# Altium footprint library Footprints.PcbLib: 29 footprints (part 1 of 2)
Each footprint in its own frame and in the unit in brackets; x right, y up, seen from the top. Pads: shape width x height; smd on the part's side, far side on the other; paste and mask are expansions set on the pad; w line width, h text height; cw(c..) or ccw(c..) is an arc to the next point about the centre after c.
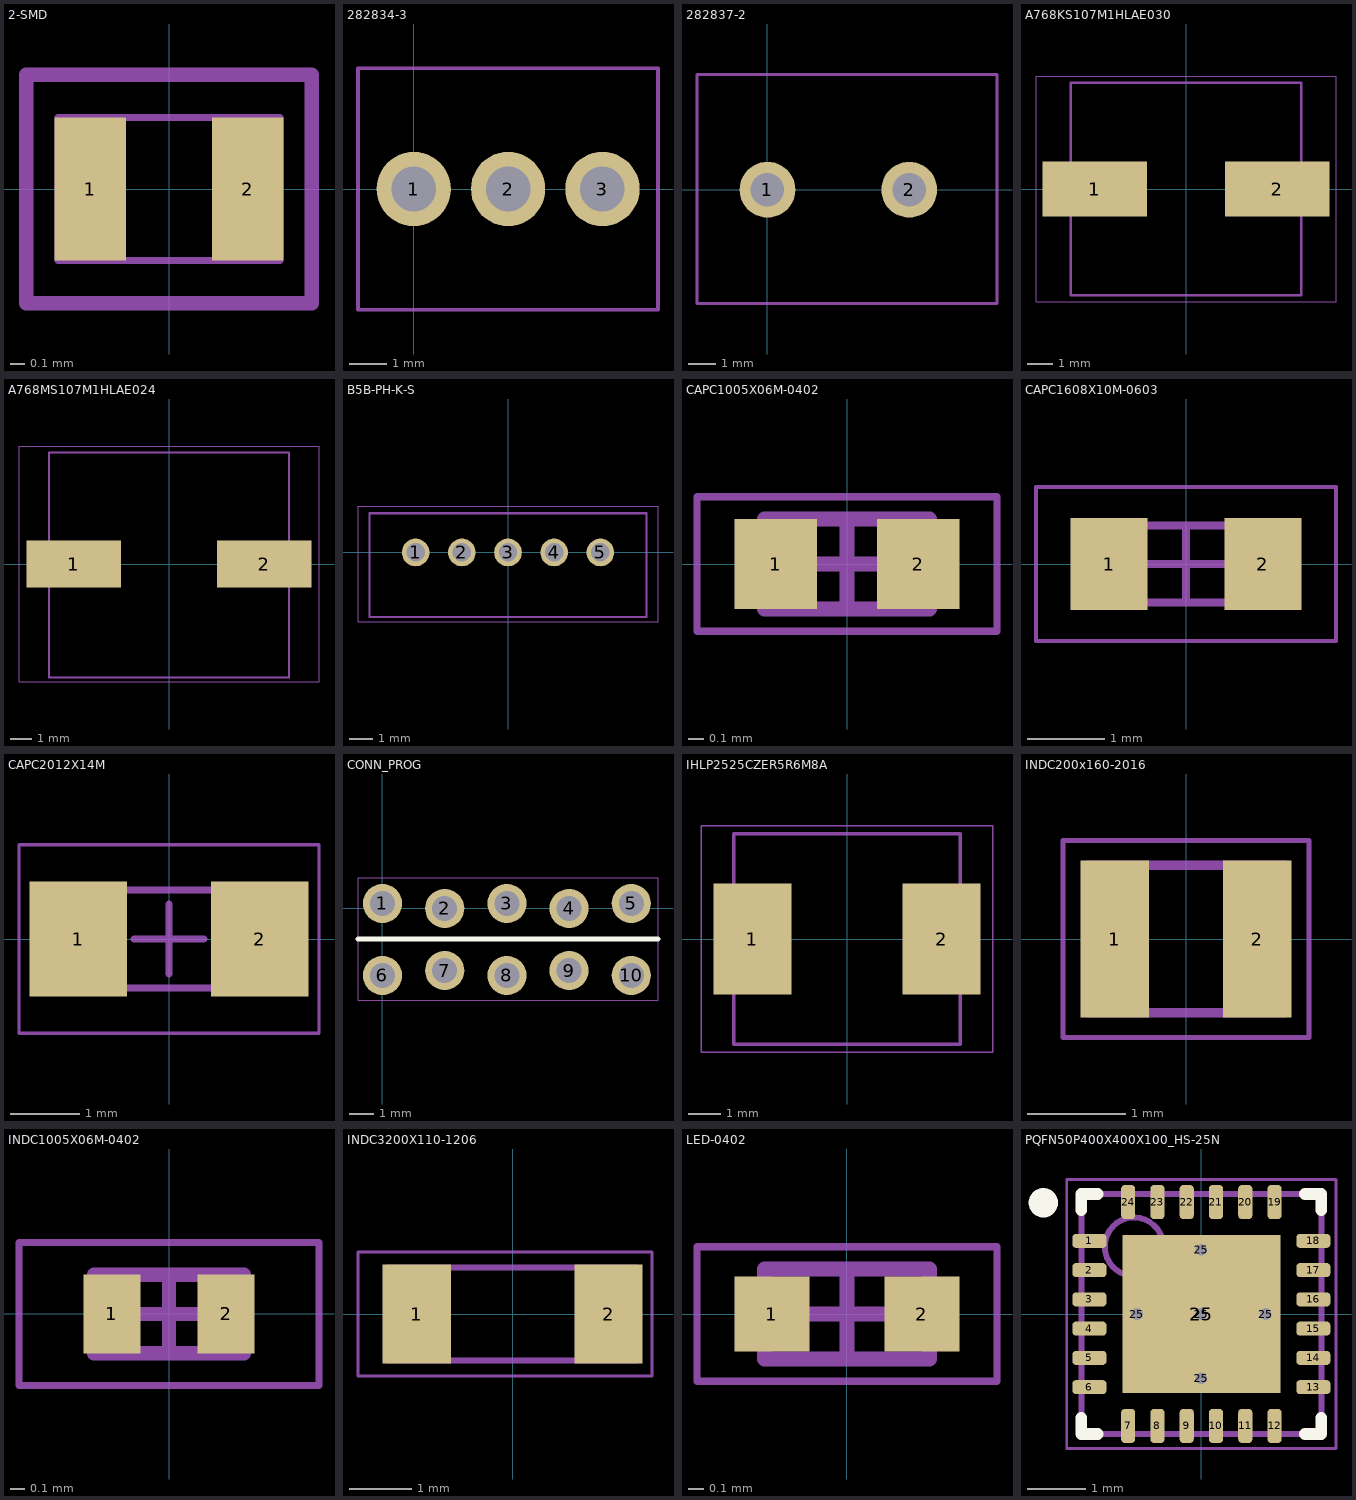
[diagram p0: the footprints below, top view; thin cyan lines are the x and y axes]

## 2-SMD [mm]
pads (2):
  rect 0.5x1 smd mask+0.1: 1(-0.55,0) 2(0.55,0)
Top Courtyard (Mech14):
  lines w0.1: -1,-0.8 1,-0.8 1,0.8 -1,0.8 -1,-0.8
Top Assembly:
  lines w0.05: -0.775,-0.5 0.775,-0.5 0.775,0.5 -0.775,0.5 -0.775,-0.5
  text ".Designator" at -0.775,-0.1 h0.4
3D body "ECS-.327-12.5-16-TR--3DModel-STEP-1.STEP": height 0.51, standoff 0.01, extent -0.8,-0.5 0.8,0.5

## 282834-3 [mm]
pads (3):
  round 2 hole 1.2: 1(0,0) 2(2.54,0) 3(5.08,0)
Top Courtyard (Mech14):
  lines w0.1: -1.5,-3.25 -1.5,3.25 6.575,3.25 6.575,-3.25 -1.5,-3.25
Top Assembly:
  lines w0.1: -1.5,-3.25 -1.5,3.25 6.575,3.25 6.575,-3.25 -1.5,-3.25
  text ".Designator" at -1.175,-0.325 h2
3D body "282834-3.step": height 10.01, standoff -3.39, extent -1.5,-3.25 6.58,3.25

## 282837-2 [mm]
pads (2):
  round 2 hole 1.2: 1(0,0) 2(5.08,0)
Top Courtyard (Mech14):
  lines w0.05: -2.525,-4.075 8.225,-4.075 8.225,4.125 -2.525,4.125 -2.525,-4.075
Top Assembly:
  lines w0.1: -2.525,-4.075 -2.525,4.125 8.225,4.125 8.225,-4.075 -2.525,-4.075
  text ".Designator" at -1.175,-0.325 h2
3D body "282837-2.step": height 10.01, standoff -3.49, extent -2.53,-4.075 8.23,4.125

## A768KS107M1HLAE030 [mm] "A768KS107M1HLAE030"
height 1.15
pads (2):
  rect 4.2x2.2 smd: 1(-3.65,0) 2(3.65,0)
Top Courtyard (Mech14):
  lines w0.05: -6,-4.5 6,-4.5 6,4.5 -6,4.5 -6,-4.5
Top Assembly:
  lines w0.1: -4.6,-4.25 4.6,-4.25 4.6,4.25 -4.6,4.25 -4.6,-4.25
  text ".Designator" at -3.4,-0.389 h1.52
3D body "A768KS107M1HLAE030.step": height 12.52, standoff 0.01, extent -4.6,-4.25 4.6,4.25

## A768MS107M1HLAE024 [mm]
height 0.6
pads (2):
  rect 4.4x2.2 smd: 1(-4.45,0) 2(4.45,0)
Top Courtyard (Mech14):
  lines w0.05: -7,-5.5 7,-5.5 7,5.5 -7,5.5 -7,-5.5
Top Assembly:
  lines w0.1: -5.6,-5.3 5.6,-5.3 5.6,5.2 -5.6,5.2 -5.6,-5.3
  text ".Designator" at -4,-0.4 h2
3D body "A768MS107M1HLAE024.step": height 12.72, standoff 0.01, extent -5.6,-5.25 5.6,5.25

## B5B-PH-K-S [mm] "B5B-PH-K-S"
height 0.6
pads (5):
  round 1.2 hole 0.8: 1(-4,0) 2(-2,0) 3(0,0) 4(2,0) 5(4,0)
Top Courtyard (Mech14):
  lines w0.05: -6.5,-3 6.5,-3 6.5,2 -6.5,2 -6.5,-3
Top Assembly:
  lines w0.1: -6,-2.8 6,-2.8 6,1.7 -6,1.7 -6,-2.8
  text ".Designator" at -3.6,-0.5 h2
3D body "B5B-PH-K-S-LF--SN---3DModel-STEP-56544.STEP": height 6.01, standoff -3.39, extent -5.95,-2.8 5.95,1.7

## CAPC1005X06M-0402 [mm] "Chip Capacitor, 2-Leads, Body 1.00x0.50mm, IPC Low Density"
height 0.6
pads (2):
  rect 0.55x0.6 smd: 1(-0.475,0) 2(0.475,0)
Top Courtyard (Mech14):
  lines w0.05: -1,-0.45 1,-0.45 1,0.45 -1,0.45 -1,-0.45
  lines w0.1: -0.3,0 0.3,0 ; 0,-0.3 0,0.3
Top Assembly:
  lines w0.1: -0.55,-0.3 0.55,-0.3 0.55,0.3 -0.55,0.3 -0.55,-0.3
  text ".Designator" at -0.775,-0.1 h0.4
3D body: height 0.6, standoff 0, extent 0.3,-0.3 0.55,0.3
3D body: height 0.6, standoff 0, extent -0.55,-0.3 -0.3,0.3
3D body: height 0.6, standoff 0, extent -0.3,-0.3 0.3,0.3

## CAPC1608X10M-0603 [mm] "Chip Capacitor, 2-Leads, Body 1.60x0.80mm, IPC Low Density"
height 1
pads (2):
  rect 1x1.2 smd: 1(-1,0) 2(1,0)
Top Courtyard (Mech14):
  lines w0.05: -1.95,-1 1.95,-1 1.95,1 -1.95,1 -1.95,-1
  lines w0.1: -0.5,0 0.5,0 ; 0,-0.5 0,0.5
Top Assembly:
  lines w0.1: -0.9,-0.5 0.9,-0.5 0.9,0.5 -0.9,0.5 -0.9,-0.5
  text ".Designator" at -0.775,-0.1 h0.4
3D body: height 1, standoff 0, extent 0.52,-0.5 0.9,0.5
3D body: height 1, standoff 0, extent -0.9,-0.5 -0.52,0.5
3D body: height 1, standoff 0, extent -0.52,-0.5 0.52,0.5

## CAPC2012X14M [mm] "Chip Capacitor, 2-Leads, Body 2.00x1.25mm, IPC Low Density"
height 1.4
pads (2):
  rect 1.4x1.65 smd: 1(-1.3,0) 2(1.3,0)
Top Courtyard (Mech14):
  lines w0.05: -2.15,-1.35 -2.15,1.35 2.15,1.35 2.15,-1.35 -2.15,-1.35
  lines w0.1: -0.5,0 0.5,0 ; 0,-0.5 0,0.5
Top Assembly:
  lines w0.1: -1.075,-0.7 -1.075,0.7 1.075,0.7 1.075,-0.7 -1.075,-0.7
  text ".Designator" at -0.775,-0.1 h0.4
3D body: height 1.4, standoff 0, extent -0.625,-0.7 0.625,0.7
3D body: height 1.4, standoff 0, extent -1.075,-0.7 -0.625,0.7
3D body: height 1.4, standoff 0, extent 0.625,-0.7 1.075,0.7

## CONN_PROG [mm]
pads (10):
  round 1.6 hole 1.02: 1(0,0.2) 2(2.54,0) 3(5.08,0.2) 4(7.62,0) 5(10.16,0.2) 6(0,-2.74) 7(2.54,-2.54) 8(5.08,-2.74) 9(7.62,-2.54) 10(10.16,-2.74)
Top Overlay:
  lines w0.2: -1,-1.25 11.25,-1.25
Top Courtyard (Mech14):
  lines w0.05: -1,-3.75 11.25,-3.75 11.25,1.25 -1,1.25 -1,-3.75

## IHLP2525CZER5R6M8A [mil]
height 21.65
pads (2):
  rect 95x135 smd: 1(-114.98,0) 2(114.98,0)
Top Courtyard (Mech14):
  lines w1.97: -177.17,-137.8 -177.17,137.8 177.17,137.8 177.17,-137.8 -177.17,-137.8
Top Assembly:
  lines w3.94: -137.8,-127.95 137.8,-127.95 137.8,127.95 -137.8,127.95 -137.8,-127.95
  text ".Designator" at -95.47,-11.31 h39.37
3D body: height 118.11, standoff 0, extent -137.8,-127.95 137.8,127.95

## INDC200x160-2016 [mm]
height 0.55
pads (2):
  rect 0.7x1.6 smd: 1(-0.725,0) 2(0.725,0)
Top Courtyard (Mech14):
  lines w0.05: -1.25,-1 1.25,-1 1.25,1 -1.25,1 -1.25,-1
Top Assembly:
  lines w0.1: -1,-0.75 1,-0.75 1,0.75 -1,0.75 -1,-0.75
  text ".Designator" at -0.675,-0.069 h0.3
3D body: height 1, standoff 0, extent 0.5,-0.8 1,0.8
3D body: height 1, standoff 0, extent -1,-0.8 -0.5,0.8
3D body: height 1, standoff 0, extent -0.5,-0.8 0.5,0.8

## INDC1005X06M-0402 [mm] "Chip Inductor, 2-Leads, Body 1.00x0.50mm, IPC Low Density"
height 0.55
pads (2):
  rect 0.4x0.55 smd: 1(-0.4,0) 2(0.4,0)
Top Courtyard (Mech14):
  lines w0.05: -1.05,-0.5 -1.05,0.5 1.05,0.5 1.05,-0.5 -1.05,-0.5
  lines w0.1: -0.275,0 0.275,0 ; 0,-0.275 0,0.275
Top Assembly:
  lines w0.1: -0.525,-0.275 -0.525,0.275 0.525,0.275 0.525,-0.275 -0.525,-0.275
  text ".Designator" at -0.775,-0.1 h0.4
3D body: height 0.55, standoff 0, extent -0.275,-0.275 0.275,0.275
3D body: height 0.55, standoff 0, extent -0.525,-0.275 -0.275,0.275
3D body: height 0.55, standoff 0, extent 0.275,-0.275 0.525,0.275

## INDC3200X110-1206 [mm]
height 0.55
pads (2):
  rect 1.1x1.6 smd: 1(-1.55,0) 2(1.55,0)
Top Courtyard (Mech14):
  lines w0.05: -2.5,-1 2.25,-1 2.25,1 -2.5,1 -2.5,-1
Top Assembly:
  lines w0.1: -2.025,-0.75 2,-0.75 2,0.75 -2.025,0.75 -2.025,-0.75
  text ".Designator" at -0.75,0 h0.4
3D body "7427921_Download_STP_WE-CBF-1206_rev1.stp": height 1.11, standoff 0.01, extent -1.6,-0.8 1.6,0.8

## LED-0402 [mm]
height 0.6
pads (2):
  rect 0.5x0.5 smd: 1(-0.5,0) 2(0.5,0)
Top Courtyard (Mech14):
  lines w0.05: -1,-0.45 1,-0.45 1,0.45 -1,0.45 -1,-0.45
  lines w0.1: -0.3,0 0.3,0 ; 0,-0.3 0,0.3
Top Assembly:
  lines w0.1: -0.55,-0.3 0.55,-0.3 0.55,0.3 -0.55,0.3 -0.55,-0.3
  text ".Designator" at -0.775,-0.1 h0.4
3D body "QBLP595.step": height 0.5, standoff 0, extent -0.521,-0.25 0.479,0.25

## PQFN50P400X400X100_HS-25N [mm] "PQFN, 24-Leads, Body 4.00x4.00mm, Pitch 0.50mm, Thermal Pad 2.70x2.70mm, IPC Medium Density"
height 1
pads (30):
  rrect50% 0.58x0.24 smd mask+0.07: 1(-1.913,1.25) 2(-1.913,0.75) 3(-1.913,0.25) 4(-1.913,-0.25) 5(-1.913,-0.75) 6(-1.913,-1.25) 13(1.913,-1.25) 14(1.913,-0.75) 15(1.913,-0.25) 16(1.913,0.25) 17(1.913,0.75) 18(1.913,1.25)
  rrect50% 0.24x0.58 smd mask+0.07: 7(-1.25,-1.913) 8(-0.75,-1.913) 9(-0.25,-1.913) 10(0.25,-1.913) 11(0.75,-1.913) 12(1.25,-1.913) 19(1.25,1.913) 20(0.75,1.913) 21(0.25,1.913) 22(-0.25,1.913) 23(-0.75,1.913) 24(-1.25,1.913)
  round 0.3 hole 0.2 mask+0.102: 25(-1.1,0) 25(0,-1.1) 25(0,0) 25(0,1.1) 25(1.1,0)
  rect 2.7x2.7 smd paste-2539.97 mask+0.07: 25(0,0)
Top Overlay:
  circle w0.25: c-2.7,1.9 r0.125
  lines w0.2: -2.05,-1.77 -2.05,-2.05 -1.77,-2.05 ; -2.05,1.77 -2.05,2.05 -1.77,2.05 ; 1.77,-2.05 2.05,-2.05 2.05,-1.77 ; 1.77,2.05 2.05,2.05 2.05,1.77
Top Paste:
  region: 0.087,-0.1 0.087,-1.288 1.275,-1.288 1.275,-0.1
  region: -0.1,-0.087 -1.288,-0.087 -1.288,-1.275 -0.1,-1.275
  region: -0.087,0.1 -0.087,1.288 -1.275,1.288 -1.275,0.1
  rectangle: 0.1,0.087 1.288,1.275
Top Courtyard (Mech14):
  lines w0.05: -2.3,-2.3 -2.3,2.3 2.3,2.3 2.3,-2.3 -2.3,-2.3
  lines w0.1: -0.5,0 0.5,0 ; 0,-0.5 0,0.5
Top Assembly:
  circle w0.1: c-1.15,1.15 r0.5
  lines w0.1: -2.05,-2.05 -2.05,2.05 2.05,2.05 2.05,-2.05 -2.05,-2.05
  text ".Designator" at -2.3,-0.237 h1
3D body: height 1, standoff 0.05, extent -2.05,-2.05 2.05,2.05